# EAGLE library part CY8C3XXX-100PIN (library PatternAgents-Cypress)
Cypress PSoC® 3 - Programmable System on Chip, 8051 Based Source Data: http://www.cypress.com/?mpn=CY8C3866AXI-040T LBR Source: http://www.patternagents.com THIS SOFTWARE IS PROVIDED BY THE CONTRIBUTORS "AS IS" AND WITHOUT ANY EXPRESS OR IMPLIED WARRANTIES, INCLUDING, BUT NOT LIMITED TO, THE IMPLIED WARRANTIES OF MERCHANTABILITY AND FITNESS FOR A PARTICULAR PURPOSE ARE DISCLAIMED. IN NO EVENT SHALL THE COPYRIGHT OWNER OR CONTRIBUTORS BE LIABLE FOR ANY DIRECT, INDIRECT, INCIDENTAL, SPECIAL, EXEMPLARY, OR CONSEQUENTIAL DAMAGES (INCLUDING, BUT NOT LIMITED TO, PROCUREMENT OF SUBSTITUTE GOODS OR SERVICES; LOSS OF USE, DATA, OR PROFITS; OR BUSINESS INTERRUPTION) HOWEVER CAUSED AND ON ANY THEORY OF LIABILITY, WHETHER IN CONTRACT, STRICT LIABILITY, OR TORT (INCLUDING NEGLIGENCE OR OTHERWISE) ARISING IN ANY WAY OUT OF THE USE OF THIS SOFTWARE, EVEN IF ADVISED OF THE POSSIBILITY OF SUCH DAMAGE.
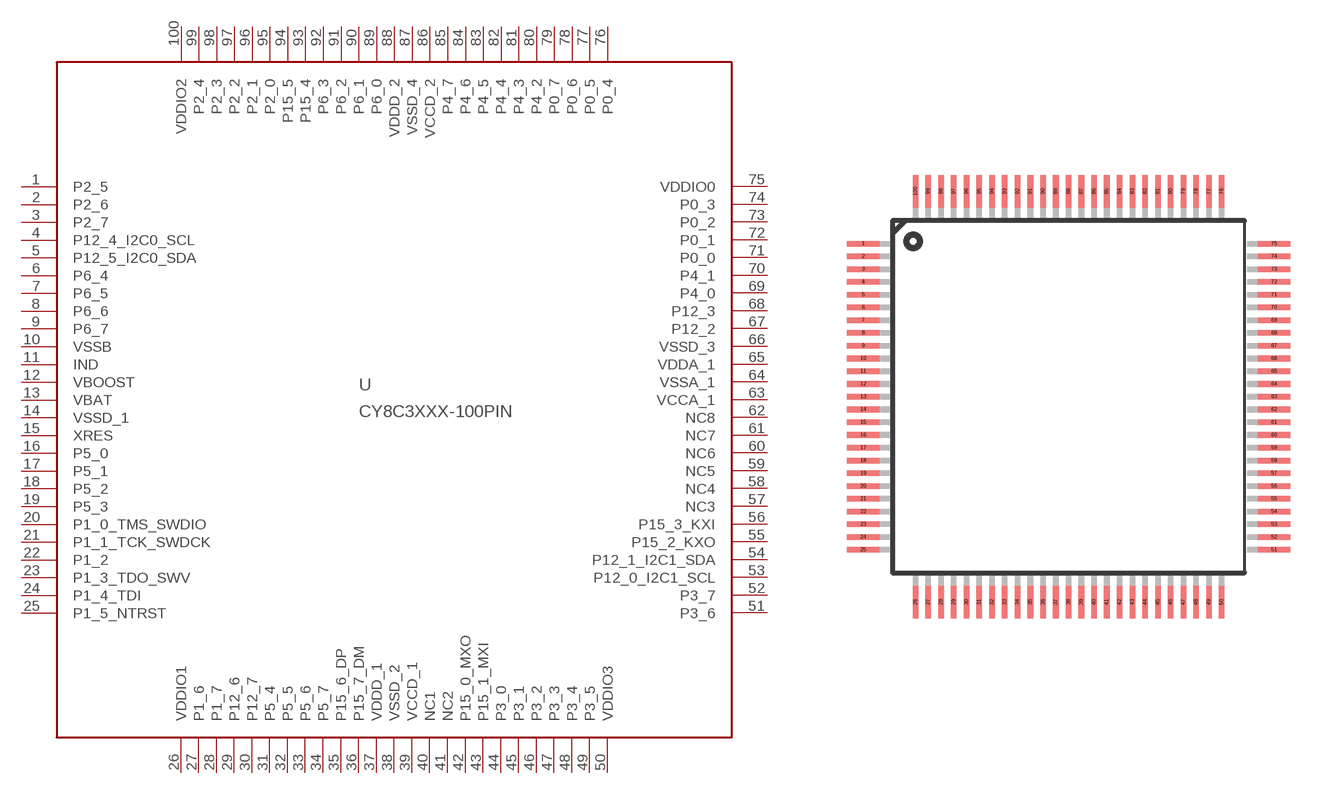
[diagram p6: symbol with the pads of TQFP-14X14-100; footprint TQFP-14X14-100]

Designator prefix U

## CY8C3XXX-100PIN (MPN: CY8C3866AXI-040)  [TQFP-14X14-100]
1  P2_5  pas
2  P2_6  pas
3  P2_7  pas
4  P12_4_I2C0_SCL  pas
5  P12_5_I2C0_SDA  pas
6  P6_4  pas
7  P6_5  pas
8  P6_6  pas
9  P6_7  pas
10  VSSB  pas
11  IND  pas
12  VBOOST  pas
13  VBAT  pas
14  VSSD_1  pas
15  XRES  pas
16  P5_0  pas
17  P5_1  pas
18  P5_2  pas
19  P5_3  pas
20  P1_0_TMS_SWDIO  pas
21  P1_1_TCK_SWDCK  pas
22  P1_2  pas
23  P1_3_TDO_SWV  pas
24  P1_4_TDI  pas
25  P1_5_NTRST  pas
26  VDDIO1  pas
27  P1_6  pas
28  P1_7  pas
29  P12_6  pas
30  P12_7  pas
31  P5_4  pas
32  P5_5  pas
33  P5_6  pas
34  P5_7  pas
35  P15_6_DP  pas
36  P15_7_DM  pas
37  VDDD_1  pas
38  VSSD_2  pas
39  VCCD_1  pas
40  NC1  pas
41  NC2  pas
42  P15_0_MXO  pas
43  P15_1_MXI  pas
44  P3_0  pas
45  P3_1  pas
46  P3_2  pas
47  P3_3  pas
48  P3_4  pas
49  P3_5  pas
50  VDDIO3  pas
51  P3_6  pas
52  P3_7  pas
53  P12_0_I2C1_SCL  pas
54  P12_1_I2C1_SDA  pas
55  P15_2_KXO  pas
56  P15_3_KXI  pas
57  NC3  pas
58  NC4  pas
59  NC5  pas
60  NC6  pas
61  NC7  pas
62  NC8  pas
63  VCCA_1  pas
64  VSSA_1  pas
65  VDDA_1  pas
66  VSSD_3  pas
67  P12_2  pas
68  P12_3  pas
69  P4_0  pas
70  P4_1  pas
71  P0_0  pas
72  P0_1  pas
73  P0_2  pas
74  P0_3  pas
75  VDDIO0  pas
76  P0_4  pas
77  P0_5  pas
78  P0_6  pas
79  P0_7  pas
80  P4_2  pas
81  P4_3  pas
82  P4_4  pas
83  P4_5  pas
84  P4_6  pas
85  P4_7  pas
86  VCCD_2  pas
87  VSSD_4  pas
88  VDDD_2  pas
89  P6_0  pas
90  P6_1  pas
91  P6_2  pas
92  P6_3  pas
93  P15_4  pas
94  P15_5  pas
95  P2_0  pas
96  P2_1  pas
97  P2_2  pas
98  P2_3  pas
99  P2_4  pas
100  VDDIO2  pas

## Footprint TQFP-14X14-100 (pad centres in mm)
TQFP-14X14-100 Thin Plastic Quad Flatpack with 100 pins Square 14mm x 14mm x 1.4mm - A100 Data Source: http://www.cypress.com/?rID=1286 LBR Source: http://www.patternagents.com THIS SOFTWARE IS PROVIDED BY THE CONTRIBUTORS "AS IS" AND WITHOUT ANY EXPRESS OR IMPLIED WARRANTIES, INCLUDING, BUT NOT LIMITED TO, THE IMPLIED WARRANTIES OF MERCHANTABILITY AND FITNESS FOR A PARTICULAR PURPOSE ARE DISCLAIMED. IN NO EVENT SHALL THE COPYRIGHT OWNER OR CONTRIBUTORS BE LIABLE FOR ANY DIRECT, INDIRECT, INCIDENTAL, SPECIAL, EXEMPLARY, OR CONSEQUENTIAL DAMAGES (INCLUDING, BUT NOT LIMITED TO, PROCUREMENT OF SUBSTITUTE GOODS OR SERVICES; LOSS OF USE, DATA, OR PROFITS; OR BUSINESS INTERRUPTION) HOWEVER CAUSED AND ON ANY THEORY OF LIABILITY, WHETHER IN CONTRACT, STRICT LIABILITY, OR TORT (INCLUDING NEGLIGENCE OR OTHERWISE) ARISING IN ANY WAY OUT OF THE USE OF THIS SOFTWARE, EVEN IF ADVISED OF THE POSSIBILITY OF SUCH DAMAGE.
smd 1.27 x 0.22: 1 -8.05,6; 2 -8.05,5.5; 3 -8.05,5; 4 -8.05,4.5; 5 -8.05,4; 6 -8.05,3.5; 7 -8.05,3; 8 -8.05,2.5; 9 -8.05,2; 10 -8.05,1.5; 11 -8.05,1; 12 -8.05,0.5; 13 -8.05,0; 14 -8.05,-0.5; 15 -8.05,-1; 16 -8.05,-1.5; 17 -8.05,-2; 18 -8.05,-2.5; 19 -8.05,-3; 20 -8.05,-3.5; 21 -8.05,-4; 22 -8.05,-4.5; 23 -8.05,-5; 24 -8.05,-5.5; 25 -8.05,-6; 51 8.05,-6; 52 8.05,-5.5; 53 8.05,-5; 54 8.05,-4.5; 55 8.05,-4; 56 8.05,-3.5; 57 8.05,-3; 58 8.05,-2.5; 59 8.05,-2; 60 8.05,-1.5; 61 8.05,-1; 62 8.05,-0.5; 63 8.05,0; 64 8.05,0.5; 65 8.05,1; 66 8.05,1.5; 67 8.05,2; 68 8.05,2.5; 69 8.05,3; 70 8.05,3.5; 71 8.05,4; 72 8.05,4.5; 73 8.05,5; 74 8.05,5.5; 75 8.05,6
smd 0.22 x 1.27: 26 -6,-8.05; 27 -5.5,-8.05; 28 -5,-8.05; 29 -4.5,-8.05; 30 -4,-8.05; 31 -3.5,-8.05; 32 -3,-8.05; 33 -2.5,-8.05; 34 -2,-8.05; 35 -1.5,-8.05; 36 -1,-8.05; 37 -0.5,-8.05; 38 0,-8.05; 39 0.5,-8.05; 40 1,-8.05; 41 1.5,-8.05; 42 2,-8.05; 43 2.5,-8.05; 44 3,-8.05; 45 3.5,-8.05; 46 4,-8.05; 47 4.5,-8.05; 48 5,-8.05; 49 5.5,-8.05; 50 6,-8.05; 76 6,8.05; 77 5.5,8.05; 78 5,8.05; 79 4.5,8.05; 80 4,8.05; 81 3.5,8.05; 82 3,8.05; 83 2.5,8.05; 84 2,8.05; 85 1.5,8.05; 86 1,8.05; 87 0.5,8.05; 88 0,8.05; 89 -0.5,8.05; 90 -1,8.05; 91 -1.5,8.05; 92 -2,8.05; 93 -2.5,8.05; 94 -3,8.05; 95 -3.5,8.05; 96 -4,8.05; 97 -4.5,8.05; 98 -5,8.05; 99 -5.5,8.05; 100 -6,8.05